# EAGLE library part JP8E (library machine_science)
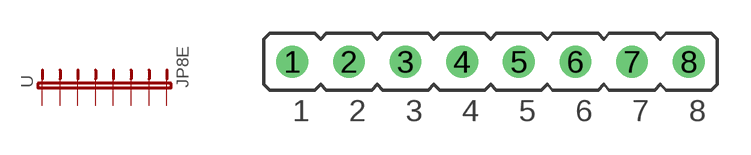
[diagram p32: symbol with the pads of JP8; footprint JP8]

Designator prefix -

## JP8E  [JP8]
1  1  pas
2  2  pas
3  3  pas
4  4  pas
5  5  pas
6  6  pas
7  7  pas
8  8  pas

## Footprint JP8 (pad centres in mm)
drill 0.914 round: 1 -8.89,0; 2 -6.35,0; 3 -3.81,0; 4 -1.27,0; 5 1.27,0; 6 3.81,0; 7 6.35,0; 8 8.89,0